# Altium integrated library Integrated_Library_R1206.IntLib: 6 symbols
Pins are listed as number, name and electrical type; pins without a type are passive.

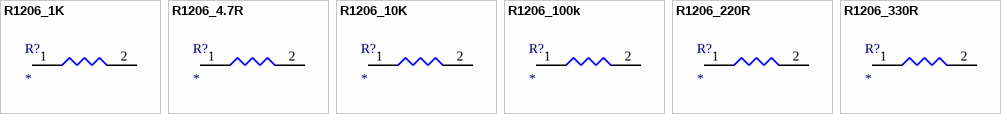
[diagram p0: symbols R1206_1K to R1206_330R]

## R1206_1K
designator R?
R1206_1K
footprint R1206
pins: 1, 2

## R1206_4.7R
designator R?
R1206_4.7R
footprint R1206
pins: 1, 2

## R1206_10K
designator R?
R1206_10K
footprint R1206
pins: 1, 2

## R1206_100k
designator R?
R1206_100k
footprint R1206
footprint R1206
pins: 1, 2

## R1206_220R
designator R?
R1206_220R
footprint R1206
pins: 1, 2

## R1206_330R
designator R?
R1206_330R
footprint R1206
pins: 1, 2